# EAGLE library part THAT4301 (library that-corp)
Analog Engine IC IC Dynamics Processor
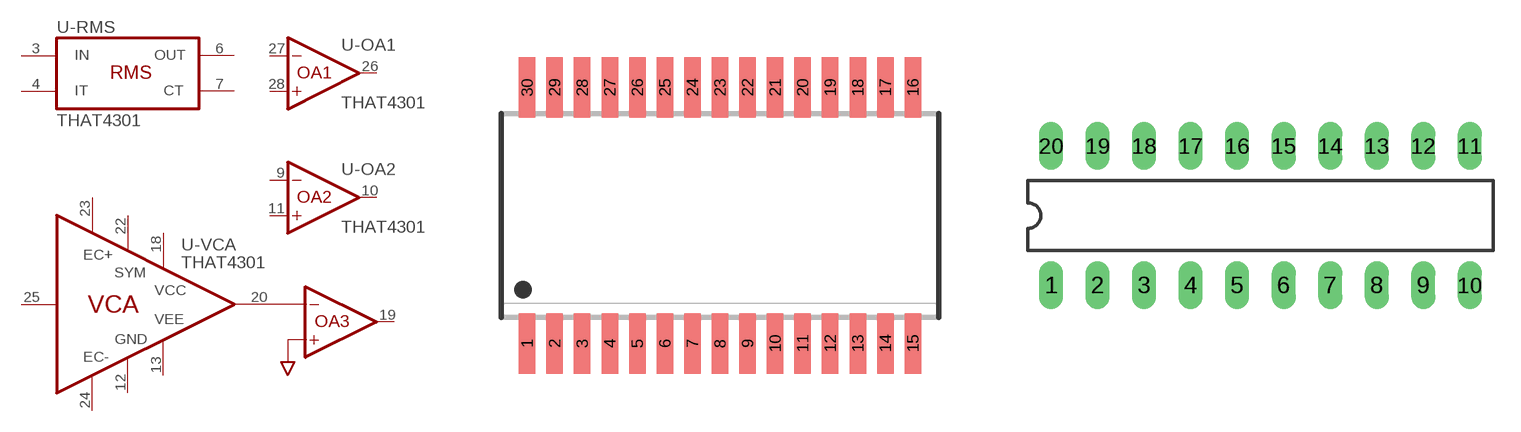
[diagram p3: symbol with the pads of SO30WM; footprints SO30WM, DIL20]

Designator prefix U; gates -RMS=THAT4301_RMS -VCA=THAT4301_VCA -OA1=OA1 -OA2=OA2

## THAT4301M30-I  [SO30WM]
3  -RMS:RMS-IN  in
4  -RMS:RMS-IT  pas
6  -RMS:RMS-OUT  out
7  -RMS:RMS-CT  pas
9  -OA2:-IN  in
10  -OA2:OUT  out
11  -OA2:+IN  in
12  -VCA:GND  pwr
13  -VCA:VEE  pwr
18  -VCA:VCC  pwr
19  -VCA:OA3_OUT  out
20  -VCA:VCA_OUT  out
22  -VCA:SYM  pas
23  -VCA:EC+  pas
24  -VCA:EC-  pas
25  -VCA:IN  in
26  -OA1:OUT  out
27  -OA1:-IN  in
28  -OA1:+IN  in

## THAT4301P20-I  [DIL20]
1  -RMS:RMS-IN  in
2  -RMS:RMS-IT  pas
4  -RMS:RMS-OUT  out
5  -RMS:RMS-CT  pas
6  -OA2:-IN  in
7  -OA2:OUT  out
8  -OA2:+IN  in
9  -VCA:GND  pwr
10  -VCA:VEE  pwr
11  -VCA:VCC  pwr
12  -VCA:OA3_OUT  out
13  -VCA:VCA_OUT  out
14  -VCA:SYM  pas
15  -VCA:EC+  pas
16  -VCA:EC-  pas
17  -VCA:IN  in
18  -OA1:OUT  out
19  -OA1:-IN  in
20  -OA1:+IN  in

## THAT4301  [SO20W]
Pads as for DIL20

## Footprint SO30WM (pad centres in mm)
SMALL OUTLINE INTEGRATED CIRCUIT wide body 7.5 mm x 15.4 mm, 1MM pitch leads
smd 0.6 x 2.2: 1 -7,-4.65; 2 -6,-4.65; 3 -5,-4.65; 4 -4,-4.65; 5 -3,-4.65; 6 -2,-4.65; 7 -1,-4.65; 8 0,-4.65; 9 1,-4.65; 10 2,-4.65; 11 3,-4.65; 12 4,-4.65; 13 5,-4.65; 14 6,-4.65; 15 7,-4.65; 16 7,4.65; 17 6,4.65; 18 5,4.65; 19 4,4.65; 20 3,4.65; 21 2,4.65; 22 1,4.65; 23 0,4.65; 24 -1,4.65; 25 -2,4.65; 26 -3,4.65; 27 -4,4.65; 28 -5,4.65; 29 -6,4.65; 30 -7,4.65

## Footprint DIL20 (pad centres in mm)
Dual In Line Package
drill 0.813 long: 1 -11.43,-3.81; 2 -8.89,-3.81; 3 -6.35,-3.81; 4 -3.81,-3.81; 5 -1.27,-3.81; 6 1.27,-3.81; 7 3.81,-3.81; 8 6.35,-3.81; 9 8.89,-3.81; 10 11.43,-3.81; 11 11.43,3.81; 12 8.89,3.81; 13 6.35,3.81; 14 3.81,3.81; 15 1.27,3.81; 16 -1.27,3.81; 17 -3.81,3.81; 18 -6.35,3.81; 19 -8.89,3.81; 20 -11.43,3.81

## Footprint SO20W (pad centres in mm)
SMALL OUTLINE INTEGRATED CIRCUIT wide body 7.5 mm/JEDEC MS-013AC
smd 0.6 x 2.2: 1 -5.715,-4.6; 2 -4.445,-4.6; 3 -3.175,-4.6; 4 -1.905,-4.6; 5 -0.635,-4.6; 6 0.635,-4.6; 7 1.905,-4.6; 8 3.175,-4.6; 9 4.445,-4.6; 10 5.715,-4.6; 11 5.715,4.6; 12 4.445,4.6; 13 3.175,4.6; 14 1.905,4.6; 15 0.635,4.6; 16 -0.635,4.6; 17 -1.905,4.6; 18 -3.175,4.6; 19 -4.445,4.6; 20 -5.715,4.6